# Altium schematic symbol library sch_codec_pcm3060.SchLib: 1 symbol
Pins are listed as number, name and electrical type; pins without a type are passive.

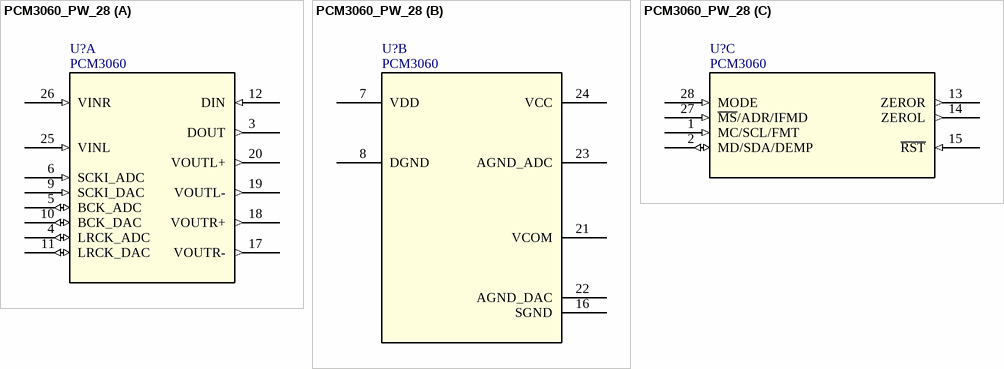
[diagram p0: symbol PCM3060_PW_28]

## PCM3060_PW_28
designator U?, comment PCM3060
24-bit Asynchronous Stereo Audio Codec with 96/192kHz sampling rate; Manufacturer: Texas Instruments; Manufacturer_Part_Number: pcm3060_pw_28; Encapsulado: TSSOP; Inputs: 1 single-ended analog; outputs: 2 differential analog; power analog: 5V; power digital: 3V3; fs ADC: 16 - 96 kHz; fs DAC: 16 - 192 kHz; sys_clk ADC: 256, 384, 512, 768 fs; sys_clk DAC: 128, 192, 256, 384, 512, 768 fs; input fullscale: 3Vpp; output fullscale: single-ended 4Vpp. differential 8Vpp; input antialias: included; output LPF: included (analog); _MODE=VDD: SPI mode; _MODE=PullUp: H/W mode, single-ended VoutX (through R=220K); _MODE=PullDown: H/W mode, differential VoutX (through R=220K); _MODE=DGND: I2C mode; _SGND=AGND: shield analog ground; Proveedor: Digi-Key; Cod. Proveedor: 296-38201-1-ND; Link: http://www.ti.com/lit/gpn/PCM3060; Vendor: Texas Instruments
footprint PCM3060_PW28
footprint PCM3060_PW28-L
footprint PCM3060_PW28-M
part A pins: 3 DOUT (out), 4 LRCK_ADC (io), 5 BCK_ADC (io), 6 SCKI_ADC (in), 9 SCKI_DAC (in), 10 BCK_DAC (io), 11 LRCK_DAC (io), 12 DIN (in), 17 VOUTR- (out), 18 VOUTR+ (out), 19 VOUTL- (out), 20 VOUTL+ (out), 25 VINL (in), 26 VINR (in)
part B pins: 7 VDD (power), 8 DGND (power), 16 SGND (power), 21 VCOM (power), 22 AGND_DAC (power), 23 AGND_ADC (power), 24 VCC (power)
part C pins: 1 MC/SCL/FMT (in), 2 MD/SDA/DEMP (io), 13 ZEROR (out), 14 ZEROL (out), 15 ~{RST} (in), 27 ~{MS}/ADR/IFMD (in), 28 MODE (in)